# EAGLE library part AD7799 (library PikiTech)
AD7799 - 3CH, 24bit ADC with built in programable amplifier
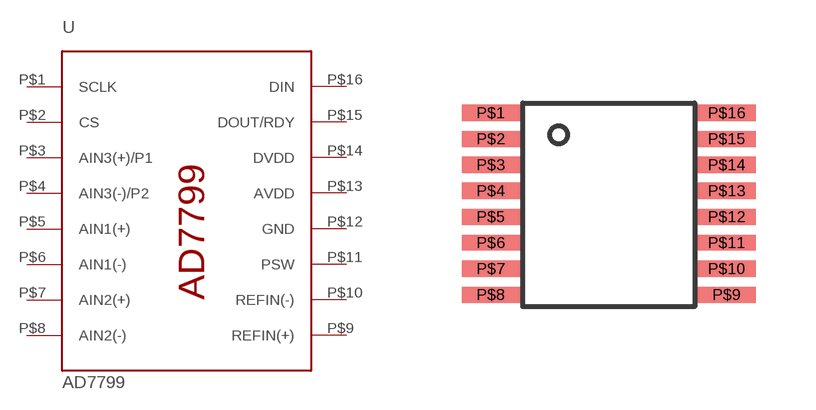
[diagram p3: symbol with the pads of TSSOP-16; footprint TSSOP-16]

Designator prefix -

## AD7799  [TSSOP-16]
P$1  SCLK
P$2  CS
P$3  AIN3(+)/P1
P$4  AIN3(-)/P2
P$5  AIN1(+)
P$6  AIN1(-)
P$7  AIN2(+)
P$8  AIN2(-)
P$9  REFIN(+)
P$10  REFIN(-)
P$11  PSW
P$12  GND
P$13  AVDD
P$14  DVDD
P$15  DOUT/RDY
P$16  DIN

## Footprint TSSOP-16 (pad centres in mm)
TSSOP-16 Package
smd 1.45 x 0.4: P$1 0,4.55; P$2 0,3.9; P$3 0,3.25; P$4 0,2.6; P$5 0,1.95; P$6 0,1.3; P$7 0,0.65; P$8 0,0; P$9 5.9,0; P$10 5.9,0.65; P$11 5.9,1.3; P$12 5.9,1.95; P$13 5.9,2.6; P$14 5.9,3.25; P$15 5.9,3.9; P$16 5.9,4.55